# Altium integrated library Pedals SMD.IntLib: 124 symbols (part 7 of 7)
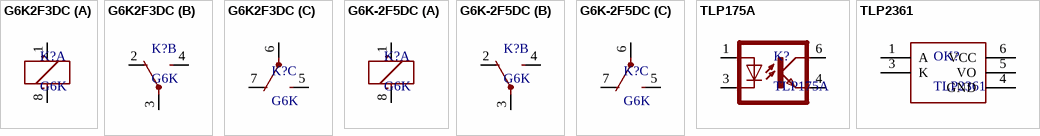
[diagram p17: symbols G6K2F3DC to TLP2361]

## G6K-2F5DC
designator K?, comment G6K
OMRON - G6K-2F 5DC - RELAY, SIGNAL, DPDT, 30VDC, 1A; Manufacturer: Cliff; Coil Resistance: 237R; Coil Voltage (DC): 5V; Coil Current: 21.1mA; Coil Power: 100mW; Coil Type: Non-Latching; Release Time: 1.3ms; Contact Resistance: 100mR; Insulation Resistance: 1GR; Number of Poles: 2; Supplier 1: Farnell; Supplier Part Number 1: 4446185; Manufacturer Part Number: G6K-2F5DC; Stock: 0; RoHS: Yes; Mount: PCB; Case/Package: SMD/SMT; Contact Material: Gold; Min Operating Temperature: -40°C; Max Operating Temperature: 70°C; Contact Current Rating: 1A; Termination: SMD/SMT; Current Rating: 21.1mA; Power Rating: 100mW; Length: 10mm; Height: 5.2mm; Depth: 7.8mm; Width: 10mm; REACH SVHC: Unknown; ComponentLink1URL: https://datasheet.ciiva.com/1524/1702879-1524968.pdf?src-supplier=Element14; ComponentLink1Description: https://datasheet.ciiva.com/1524/1702879-1524968.pdf?src-supplier=Element14; Price: 2.68
footprint G6K
part A pins: 1 +, 8 -
part B pins: 2 O, 3 P, 4 S
part C pins: 5 S, 6 P, 7 O

## TLP175A
designator K?
Toshiba TLP175A AC Input MOSFET Output Optocoupler, Surface Mount, 4-Pin SOIC; Isolation Voltage: 3.75kV; Max Input Current: 80mA; Number of Channels: 1; Rise Time: 1ms; Supplier 1: Farnell; Supplier Part Number 1: 2524257; Manufacturer: Toshiba; Manufacturer Part Number: TLP175A; Stock: 0; Pricing: 5=0.877, 25=0.717, 100=0.597, 250=0.546, 500=0.49, 1000=0.441 (EUR); RoHS: No; Mount: Surface Mount; Case/Package: SOIC; Number of Pins: 4; Fall Time: 1ms; REACH SVHC: Unknown; ComponentLink1URL: http://www.farnell.com/datasheets/2017792.pdf?src-supplier=Farnell; ComponentLink1Description: http://www.farnell.com/datasheets/2017792.pdf?src-supplier=Farnell; ComponentLink2URL: http://uk.rs-online.com/webdocs/129d/0900766b8129d5be.pdf?src-supplier=RSComponents; ComponentLink2Description: http://uk.rs-online.com/webdocs/129d/0900766b8129d5be.pdf?src-supplier=RSComponents; ComponentLink3URL: http://www.farnell.com/datasheets/2017792.pdf?src-supplier=Element14; ComponentLink3Description: http://www.farnell.com/datasheets/2017792.pdf?src-supplier=Element14; ComponentLink4URL: http://www.farnell.com/datasheets/2017792.pdf?src-supplier=Newark; ComponentLink4Description: http://www.farnell.com/datasheets/2017792.pdf?src-supplier=Newark; Price: 0.829
footprint TLP175A (SOP, 4-Leads, Body 3.75x4.60mm, Pitch 2.54mm, IPC Medium Density)
pins: 1 A, 3 C, 4 EMIT, 6 COL

## TLP2361
designator OK?
TOSHIBA - TLP2361 - OPTOKOPPLER, DIGITAL, 3.75KV, SOP-5; Number of Channels: 1; Supplier 1: Farnell; Supplier Part Number 1: 2524282; Manufacturer: Toshiba; Manufacturer Part Number: TLP2361; RoHS: No; Stock: 2816; Pricing: 5=1.18000, 10=0.78500, 25=0.73300, 50=0.64500, 100=0.53800, 500=0.43200 (EUR); Case/Package: SOP; Number of Pins: 5; Isolation Voltage: 3.75kV; REACH SVHC: Unknown; ComponentLink1URL: http://www.farnell.com/datasheets/2017811.pdf?src-supplier=Farnell; ComponentLink1Description: http://www.farnell.com/datasheets/2017811.pdf?src-supplier=Farnell; ComponentLink2URL: http://www.farnell.com/datasheets/2017811.pdf?src-supplier=Element14; ComponentLink2Description: http://www.farnell.com/datasheets/2017811.pdf?src-supplier=Element14
footprint TLP2361
pins: 1 A, 3 K, 4 GND, 5 VO, 6 VCC


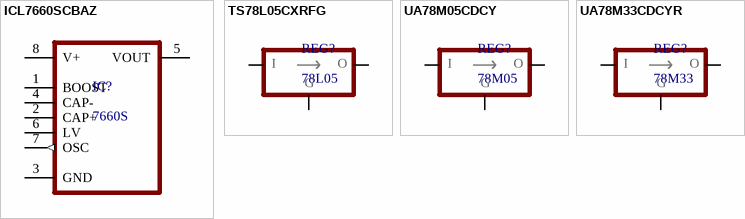
[diagram p8: symbols ICL7660SCBAZ to UA78M33CDCYR]

## ICL7660SCBAZ
designator IC?, comment 7660S
RENESAS - ICL7660SCBAZ - IC DC DC CHARGE PUMP; Manufacturer: Intersil; Output Voltage: 22.8V; Logic Function: Inverting; Output Current: 45mA; Number of Outputs: 1; Max Input Voltage: 12V; Min Supply Voltage: 1.5V; Switching Frequency: 10kHz; Synchronous Rectifier: No; Min Output Voltage: -12V; Max Output Voltage: -1.5V; Max Supply Current: 180uA; Topology: Boost; Output Type: Adjustable; Supplier 1: Farnell; Supplier Part Number 1: 1561969; Manufacturer Part Number: ICL7660SCBAZ; Stock: 4037; Pricing: 1=1.19, 25=1.01, 50=0.911, 100=0.804, 250=0.745, 500=0.686, 1000=0.672, 2500=0.664 (EUR); RoHS: Yes; Mount: Surface Mount; Case/Package: SOIC; Number of Pins: 8; Weight: 0.019048oz; Contact Plating: Tin; Min Operating Temperature: 0°C; Max Operating Temperature: 70°C; Packaging: Rail/Tube; Max Supply Voltage: 12V; Package Quantity: 98; Max Output Current: 45mA; Min Input Voltage: 1.5V; Length: 5mm; Height: 1.5mm; Width: 4mm; Radiation Hardening: No; Lead Free: Lead Free; REACH SVHC: No SVHC; ComponentLink1URL: https://datasheet.ciiva.com/26896/icl7660scbaz-26896984.pdf?src-supplier=IIIC; ComponentLink1Description: https://datasheet.ciiva.com/26896/icl7660scbaz-26896984.pdf?src-supplier=IIIC; ComponentLink2URL: https://datasheet.ciiva.com/2027/icl7660s-a-2027389.pdf?src-supplier=Digi-Key; ComponentLink2Description: https://datasheet.ciiva.com/2027/icl7660s-a-2027389.pdf?src-supplier=Digi-Key; Price: 1.52
footprint SO8
pins: 1 BOOST (power), 2 CAP+, 3 GND (power), 4 CAP-, 5 VOUT (power), 6 LV, 7 OSC (out), 8 V+ (power)

## TS78L05CXRFG
designator REG?, comment 78L05
TAIWAN SEMICONDUCTOR - TS78L05CX RFG - REG 3-TERMINAL 100MA, SMD, SOT23-3; Min Input Voltage: 0uV; Max Input Voltage: 35V; Number of Outputs: 1; Nominal Output Voltage: 5V; Supplier 1: Farnell; Supplier Part Number 1: 1476698; Manufacturer: Taiwan Semiconductor; Manufacturer Part Number: TS78L05CXRFG; Stock: 0; Pricing: 5=0.101, 50=0.099, 100=0.097, 250=0.0949, 500=0.0929, 1000=0.0909, 5000=0.0889, 10000=0.0869 (EUR); RoHS: Yes; Case/Package: SOT-23; Number of Pins: 3; Min Operating Temperature: 0°C; Max Operating Temperature: 125°C; Output Current: 100mA; Packaging: Cut Tape; REACH SVHC: No SVHC; ComponentLink1URL: http://www.farnell.com/datasheets/2044138.pdf?src-supplier=Farnell; ComponentLink1Description: http://www.farnell.com/datasheets/2044138.pdf?src-supplier=Farnell; ComponentLink2URL: http://www.farnell.com/datasheets/4546.pdf?src-supplier=Element14; ComponentLink2Description: http://www.farnell.com/datasheets/4546.pdf?src-supplier=Element14; ComponentLink3URL: http://www.taiwansemi.com/products/datasheet/TS78L00_I15.pdf?src-supplier=Digi-Key; ComponentLink3Description: http://www.taiwansemi.com/products/datasheet/TS78L00_I15.pdf?src-supplier=Digi-Key; Price: 0.262
footprint SOT23-3 (SOT23, 3-Leads, Body 2.80x2.80mm, Pitch 0.95mm, IPC Medium Density)
pins: 1 OUTPUT (power), 2 INPUT (power), 3 COMMON (power)
text: I; O; G

## UA78M05CDCY
designator REG?, comment 78M05
IC REG LINEAR 5V 500MA SOT223-4; Manufacturer: Texas Instruments; Manufacturer Part Number: UA78M05CDCY; Max Input Voltage: 25V; Min Input Voltage: 7V; Number of Outputs: 1; Dropout Voltage: 2V; Polarity: Positive; Power Supply Rejection Ratio (PSRR): 80dB; Quiescent Current: 4.5mA; Output Type: Fixed; Min Output Voltage: 4.75V; Supplier 1: Farnell; Supplier Part Number 1: 2296030; Stock: 6366; Pricing: 1=0.51, 50=0.445, 100=0.288, 250=0.262, 500=0.236, 1000=0.21, 2500=0.199, 5000=0.188 (EUR); RoHS: Yes; Mount: Surface Mount; Case/Package: SOT-223; Number of Pins: 4; Weight: 0.006632oz; Contact Plating: Tin; Min Operating Temperature: -40°C; Max Operating Temperature: 125°C; Output Voltage: 5V; Output Current: 500mA; Packaging: Rail/Tube; Package Quantity: 80; Max Output Current: 500mA; Number of Regulators: 1; Nominal Output Voltage: 5V; Max Output Voltage: 5V; Length: 6.5mm; Height: 1.6mm; Width: 3.5mm; Radiation Hardening: No; Lead Free: Lead Free; REACH SVHC: No SVHC; ComponentLink1URL: https://datasheet.ciiva.com/7992/1831162-7992581.pdf?src-supplier=Element14; ComponentLink1Description: https://datasheet.ciiva.com/7992/1831162-7992581.pdf?src-supplier=Element14; ComponentLink2URL: https://datasheet.ciiva.com/3224/ua78m05-3224613.pdf?src-supplier=Avnet; ComponentLink2Description: https://datasheet.ciiva.com/3224/ua78m05-3224613.pdf?src-supplier=Avnet; ComponentLink3URL: https://datasheet.ciiva.com/16490/ua78m12-16490200.pdf?src-supplier=Avnet+Asia; ComponentLink3Description: https://datasheet.ciiva.com/16490/ua78m12-16490200.pdf?src-supplier=Avnet+Asia; ComponentLink4URL: https://datasheet.ciiva.com/22629/1882046-22629338.pdf?src-supplier=Element14; ComponentLink4Description: https://datasheet.ciiva.com/22629/1882046-22629338.pdf?src-supplier=Element14; ComponentLink5URL: https://datasheet.ciiva.com/5697/ua78m08-5697147.pdf?src-supplier=Farnell; ComponentLink5Description: https://datasheet.ciiva.com/5697/ua78m08-5697147.pdf?src-supplier=Farnell; ComponentLink6URL: https://datasheet.ciiva.com/26255/ua78m12-26255901.pdf?src-supplier=Avnet+Europe; ComponentLink6Description: https://datasheet.ciiva.com/26255/ua78m12-26255901.pdf?src-supplier=Avnet+Europe; ComponentLink7URL: https://datasheet.ciiva.com/2060/ua78m05-2060143.pdf?src-supplier=Digi-Key; ComponentLink7Description: https://datasheet.ciiva.com/2060/ua78m05-2060143.pdf?src-supplier=Digi-Key
footprint SOT223 (SOT223, 4-Leads, Body 6.50x7.00mm (avg), Pitch 2.30mm, IPC Medium Density)
pins: 1 OUTPUT (power), 2 INPUT (power), 3 COMMON (power)
text: I; O; G

## UA78M33CDCYR
designator REG?, comment 78M33
IC REG LIN 3.3V 500MA SOT223-4; Manufacturer: Texas Instruments; Manufacturer Part Number: UA78M33CDCYR; Dropout Voltage: 2V; Number of Outputs: 1; Min Input Voltage: 5.3V; Max Input Voltage: 25V; Polarity: Positive; Power Supply Rejection Ratio (PSRR): 80dB; Quiescent Current: 4.5mA; Output Type: Fixed; Supplier 1: Farnell; Supplier Part Number 1: 3008103; RoHS: Yes; Category: Voltage Regulators - Linear; Stock: 16789; Pricing: 1=0.49500, 50=0.43200, 100=0.27900, 250=0.26000, 500=0.24200, 1000=0.22300, 2500=0.20200, 5000=0.18600 (EUR); Mount: Surface Mount; Case/Package: SOT-223-4; Number of Pins: 4; Weight: 0.006632oz; Contact Plating: Tin,Matte; Min Operating Temperature: -40°C; Max Operating Temperature: 125°C; Output Current: 500mA; Output Voltage: 3.3V; Packaging: Tape and Reel; Package Quantity: 1; Max Output Current: 500mA; Number of Regulators: 1; Nominal Output Voltage: 3.3V; Radiation Hardening: No; Lead Free: Lead Free; REACH SVHC: No SVHC; ComponentLink1URL: https://datasheet.ciiva.com/2042/ua78m05-2042173.pdf?src-supplier=Digi-Key; ComponentLink1Description: https://datasheet.ciiva.com/2042/ua78m05-2042173.pdf?src-supplier=Digi-Key; ComponentLink2URL: https://datasheet.ciiva.com/46395/1882046-46395062.pdf?src-supplier=Element14; ComponentLink2Description: https://datasheet.ciiva.com/46395/1882046-46395062.pdf?src-supplier=Element14; ComponentLink3URL: https://datasheet.ciiva.com/7992/1882046-7992586.pdf?src-supplier=Element14; ComponentLink3Description: https://datasheet.ciiva.com/7992/1882046-7992586.pdf?src-supplier=Element14; ComponentLink4URL: https://datasheet.ciiva.com/2042/ua78m05-2042171.pdf?src-supplier=Digi-Key; ComponentLink4Description: https://datasheet.ciiva.com/2042/ua78m05-2042171.pdf?src-supplier=Digi-Key; ComponentLink5URL: https://datasheet.ciiva.com/3224/ua78m05-3224619.pdf?src-supplier=Avnet; ComponentLink5Description: https://datasheet.ciiva.com/3224/ua78m05-3224619.pdf?src-supplier=Avnet; ComponentLink6URL: https://datasheet.ciiva.com/2042/ua78m05-2042172.pdf?src-supplier=Digi-Key; ComponentLink6Description: https://datasheet.ciiva.com/2042/ua78m05-2042172.pdf?src-supplier=Digi-Key; ComponentLink7URL: https://datasheet.ciiva.com/26170/ua78m12-26170716.pdf?src-supplier=Avnet+Europe; ComponentLink7Description: https://datasheet.ciiva.com/26170/ua78m12-26170716.pdf?src-supplier=Avnet+Europe; ComponentLink8URL: https://datasheet.ciiva.com/41463/001015184-da-01-en-ic-reg-3-3v-u-ua78m33cdcyr-sot-223-4-tid-41463029.pdf?src-supplier=Conrad; ComponentLink8Description: https://datasheet.ciiva.com/41463/001015184-da-01-en-ic-reg-3-3v-u-ua78m33cdcyr-sot-223-4-tid-41463029.pdf?src-supplier=Conrad
footprint SOT223 (SOT223, 4-Leads, Body 6.50x7.00mm (avg), Pitch 2.30mm, IPC Medium Density)
pins: 1 INPUT (power), 2 COMMON (power), 3 OUTPUT (power)
text: I; O; G


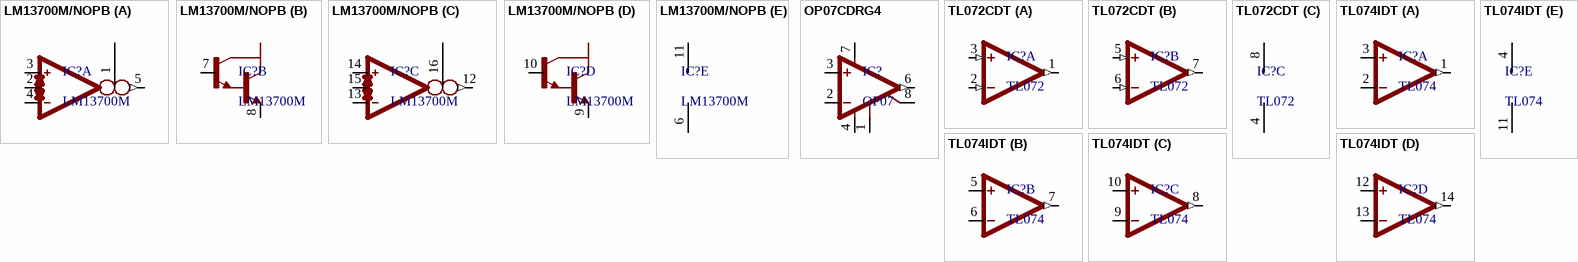
[diagram p9: symbols LM13700M/NOPB to TL074IDT]

## LM13700M/NOPB
designator IC?, comment LM13700M
IC OPAMP TRANSCOND 2MHZ 16SOIC; Manufacturer: TI National Semiconductor; Manufacturer Part Number: LM13700M/NOPB; Min Dual Supply Voltage: 5V; Max Dual Supply Voltage: 18V; Max Supply Voltage: 36V; Output Current: 20mA; Input Offset Voltage (Vos): 4mV; Input Bias Current: 8uA; Number of Circuits: 2; Common Mode Rejection Ratio: 80dB; Min Supply Voltage: 10V; Slew Rate: 50V/µs; Nominal Supply Current: 2.6mA; Output Current per Channel: 650uA; Dual Supply Voltage: 9V; Input Resistance: 26kR; Min Input Voltage: -5V; Supplier 1: Farnell; Supplier Part Number 1: 3118203; RoHS: Yes; Category: Amplifiers - Op Amps, Buffer, Instrumentation; Stock: 890; Pricing: 1=1.01000, 25=0.88700, 50=0.78400, 100=0.68100, 250=0.63800, 500=0.60200, 1000=0.55300, 2500=0.50300 (EUR); Mount: Surface Mount; Case/Package: SOIC; Number of Pins: 16; Contact Plating: Tin; Min Operating Temperature: 0°C; Max Operating Temperature: 70°C; Unity Gain Bandwidth Product: 2MHz; Gain Bandwidth Product: 2MHz; Number of Elements: 2; Package Quantity: 48; Packaging: Rail/Tube; Number of Amplifiers: 2; Number of Channels: 2; Max Input Voltage: 5V; Max Supply Current: 2.6mA; Max Output Current: 650uA; Length: 9.91mm; Height: 1.45mm; Width: 3.91mm; Radiation Hardening: No; Lead Free: Lead Free; REACH SVHC: No SVHC; ComponentLink1URL: https://datasheet.ciiva.com/27055/1992224-27055814.pdf?src-supplier=Jameco; ComponentLink1Description: https://datasheet.ciiva.com/27055/1992224-27055814.pdf?src-supplier=Jameco; ComponentLink2URL: https://datasheet.ciiva.com/15128/getdatasheetpartid-55618-15128167.pdf?src-supplier=Verical; ComponentLink2Description: https://datasheet.ciiva.com/15128/getdatasheetpartid-55618-15128167.pdf?src-supplier=Verical; ComponentLink3URL: https://datasheet.ciiva.com/1488/1839252-1488541.pdf?src-supplier=Element14; ComponentLink3Description: https://datasheet.ciiva.com/1488/1839252-1488541.pdf?src-supplier=Element14; ComponentLink4URL: https://datasheet.ciiva.com/1582/87555-1582990.pdf?src-supplier=Newark; ComponentLink4Description: https://datasheet.ciiva.com/1582/87555-1582990.pdf?src-supplier=Newark; ComponentLink5URL: https://datasheet.ciiva.com/14094/iplm13700-data-e-14094251.pdf?src-supplier=Distrelec; ComponentLink5Description: https://datasheet.ciiva.com/14094/iplm13700-data-e-14094251.pdf?src-supplier=Distrelec; ComponentLink6URL: https://datasheet.ciiva.com/1804/lm13700-1804254.pdf?src-supplier=Digi-Key; ComponentLink6Description: https://datasheet.ciiva.com/1804/lm13700-1804254.pdf?src-supplier=Digi-Key
footprint SO-16 (SOIC, 16-Leads, Body 9.85x3.85mm, Pitch 1.27mm, IPC Medium Density)
part A pins: 1 I_BIAS, 2 I_DIODE, 3 IN_P, 4 IN_N, 5 OUT (out)
part B pins: 7 B, 8 E
part C pins: 12 OUT (out), 13 IN_N, 14 IN_P, 15 I_DIODE, 16 I_BIAS
part D pins: 9 E, 10 B
part E pins: 6 V- (oe), 11 V+ (oe)

## OP07CDRG4
designator IC?, comment OP07
IC OPAMP GP 600KHZ 8SOIC; Manufacturer: Texas Instruments; Manufacturer Part Number: OP07CDRG4; Max Dual Supply Voltage: 18V; Min Dual Supply Voltage: 3V; Voltage Gain: 112.04dB; Dual Supply Voltage: 9V; Nominal Supply Current: 5mA; Common Mode Rejection Ratio: 100dB; Number of Channels: 1; Slew Rate: 0.3V/µs; Max I/O Voltage: 150uV; Input Bias Current: 7nA; Supplier 1: Farnell; Supplier Part Number 1: 2769315; Stock: 2476; Pricing: 1=0.623, 50=0.544, 100=0.351, 250=0.328, 500=0.304, 1000=0.281, 2500=0.254, 5000=0.233 (EUR); RoHS: Yes; Case/Package: D; Number of Pins: 8; Min Operating Temperature: 0°C; Max Operating Temperature: 70°C; Unity Gain Bandwidth Product: 600kHz; Packaging: Tape and Reel; Package Quantity: 2500; Operating Supply Voltage: 18V; Nominal Gain Bandwidth Product: 600kHz; Input Offset Voltage (Vos): 150uV; Gain Bandwidth Product: 600kHz; Number of Circuits: 1; Number of Elements: 1; Bandwidth: 600kHz; Length: 4.9mm; Height: 1.58mm; Width: 3.91mm; Radiation Hardening: No; Lead Free: Lead Free; ComponentLink1URL: https://datasheet.ciiva.com/1811/op07c-1811542.pdf?src-supplier=Digi-Key; ComponentLink1Description: https://datasheet.ciiva.com/1811/op07c-1811542.pdf?src-supplier=Digi-Key; Price: 0.623
footprint SO-8 (SOIC, 8-Leads, Body 4.90x3.90mm, Pitch 1.27mm, IPC Medium Density)
pins: 1 CMP1, 2 -IN, 3 +IN, 4 V- (power), 6 OUT (out), 7 V+ (power), 8 CMP2

## TL072CDT
designator IC?, comment TL072
IC OPAMP JFET 4MHZ 8SO; Manufacturer: STMicroelectronics; Manufacturer Part Number: TL072CDT; Common Mode Rejection Ratio: 70dB; Min Dual Supply Voltage: 3V; Voltage Gain: 106.02dB; Slew Rate: 16V/µs; Min Supply Voltage: 6V; Max Supply Voltage: 36V; Max Dual Supply Voltage: 18V; Number of Channels: 2; Dual Supply Voltage: 9V; Output Current: 40mA; Nominal Supply Current: 2.5mA; Input Bias Current: 200pA; Input Offset Voltage (Vos): 10mV; Operating Supply Current: 1.4mA; Supplier 1: Farnell; Supplier Part Number 1: 1467663; Stock: 1760; Pricing: 5=0.351, 50=0.313, 100=0.188, 500=0.167, 1000=0.145 (EUR); RoHS: Yes; Mount: Surface Mount; Case/Package: SOIC; Number of Pins: 8; Weight: 0.01lb; Contact Plating: Tin; Min Operating Temperature: 0°C; Max Operating Temperature: 70°C; Gain Bandwidth Product: 4MHz; Unity Gain Bandwidth Product: 4MHz; Packaging: Tape and Reel; Package Quantity: 1; Bandwidth: 4MHz; Operating Supply Voltage: 18V; Number of Circuits: 2; Output Current per Channel: 40mA; Number of Elements: 2; Number of Amplifiers: 2; Length: 4.9mm; Height: 1.25mm; Width: 3.9mm; Radiation Hardening: No; REACH SVHC: No SVHC; Lead Free: Lead Free; ComponentLink1URL: https://datasheet.ciiva.com/15129/getdatasheetpartid-40113-15129688.pdf?src-supplier=Verical; ComponentLink1Description: https://datasheet.ciiva.com/15129/getdatasheetpartid-40113-15129688.pdf?src-supplier=Verical; ComponentLink2URL: https://datasheet.ciiva.com/29306/155616-da-01-en-op-verst-tl072cdt-stm-29306849.pdf?src-supplier=Conrad; ComponentLink2Description: https://datasheet.ciiva.com/29306/155616-da-01-en-op-verst-tl072cdt-stm-29306849.pdf?src-supplier=Conrad; ComponentLink3URL: https://datasheet.ciiva.com/26847/tl072cdt-26847276.pdf?src-supplier=IIIC; ComponentLink3Description: https://datasheet.ciiva.com/26847/tl072cdt-26847276.pdf?src-supplier=IIIC; ComponentLink4URL: https://datasheet.ciiva.com/1795/cd00000490-1795664.pdf?src-supplier=Digi-Key; ComponentLink4Description: https://datasheet.ciiva.com/1795/cd00000490-1795664.pdf?src-supplier=Digi-Key; ComponentLink5URL: https://datasheet.ciiva.com/1795/cd00000490-1795665.pdf?src-supplier=Digi-Key; ComponentLink5Description: https://datasheet.ciiva.com/1795/cd00000490-1795665.pdf?src-supplier=Digi-Key; ComponentLink6URL: https://datasheet.ciiva.com/1795/cd00000490-1795666.pdf?src-supplier=Digi-Key; ComponentLink6Description: https://datasheet.ciiva.com/1795/cd00000490-1795666.pdf?src-supplier=Digi-Key; ComponentLink7URL: https://datasheet.ciiva.com/8008/1674510-8008556.pdf?src-supplier=Element14; ComponentLink7Description: https://datasheet.ciiva.com/8008/1674510-8008556.pdf?src-supplier=Element14; ComponentLink8URL: https://datasheet.ciiva.com/14151/tl072-tl072a-tl072b-st-tds-eng-14151196.pdf?src-supplier=Distrelec; ComponentLink8Description: https://datasheet.ciiva.com/14151/tl072-tl072a-tl072b-st-tds-eng-14151196.pdf?src-supplier=Distrelec; ComponentLink9URL: https://datasheet.ciiva.com/8008/1674510-8008557.pdf?src-supplier=Element14; ComponentLink9Description: https://datasheet.ciiva.com/8008/1674510-8008557.pdf?src-supplier=Element14; Price: 0.351
footprint SO-8 (SOIC, 8-Leads, Body 4.90x3.90mm, Pitch 1.27mm, IPC Medium Density)
part A pins: 1 OUT (out), 2 -IN (in), 3 +IN (in)
part B pins: 5 +IN (in), 6 -IN (in), 7 OUT (out)
part C pins: 4 V- (power), 8 V+ (power)

## TL074IDT
designator IC?, comment TL074
IC OPAMP JFET 3MHZ 14SO; Manufacturer: STMicroelectronics; Manufacturer Part Number: TL074IDT; Voltage Gain: 106.02dB; Min Dual Supply Voltage: 3V; Common Mode Rejection Ratio: 80dB; Dual Supply Voltage: 9V; Slew Rate: 13V/µs; Number of Channels: 4; Max Dual Supply Voltage: 18V; Nominal Supply Current: 2.5mA; Input Bias Current: 200pA; Input Offset Voltage (Vos): 3mV; Operating Supply Current: 1.4mA; Min Supply Voltage: 6V; Output Current: 40mA; Max Input Voltage: 15V; Min Input Voltage: -12V; Power Dissipation: 680mW; Supplier 1: Farnell; Supplier Part Number 1: 1750154; RoHS: Yes; Category: Amplifiers - Op Amps, Buffer, Instrumentation; Stock: 18824; Pricing: 5=0.48500, 50=0.42800, 100=0.26100, 500=0.23200, 1000=0.20200 (EUR); Mount: Surface Mount; Case/Package: SOIC; Number of Pins: 14; Min Operating Temperature: -40°C; Max Operating Temperature: 105°C; Gain Bandwidth Product: 3MHz; Bandwidth: 3MHz; Packaging: Tape and Reel; Unity Gain Bandwidth Product: 3MHz; Package Quantity: 2500; Number of Circuits: 4; Number of Amplifiers: 4; Number of Elements: 4; Max Supply Voltage: 18V; Output Current per Channel: 40mA; Length: 8.75mm; Height: 1.65mm; Width: 4mm; Radiation Hardening: No; REACH SVHC: No SVHC; Lead Free: Lead Free; ComponentLink1URL: https://datasheet.ciiva.com/26846/tl074idt-26846545.pdf?src-supplier=IIIC; ComponentLink1Description: https://datasheet.ciiva.com/26846/tl074idt-26846545.pdf?src-supplier=IIIC; ComponentLink2URL: https://datasheet.ciiva.com/1795/cd00000489-1795785.pdf?src-supplier=Digi-Key; ComponentLink2Description: https://datasheet.ciiva.com/1795/cd00000489-1795785.pdf?src-supplier=Digi-Key; ComponentLink3URL: https://datasheet.ciiva.com/1795/cd00000489-1795786.pdf?src-supplier=Digi-Key; ComponentLink3Description: https://datasheet.ciiva.com/1795/cd00000489-1795786.pdf?src-supplier=Digi-Key; ComponentLink4URL: https://datasheet.ciiva.com/1795/cd00000489-1795787.pdf?src-supplier=Digi-Key; ComponentLink4Description: https://datasheet.ciiva.com/1795/cd00000489-1795787.pdf?src-supplier=Digi-Key
footprint SO-14 (SOIC, 14-Leads, Body 8.65x3.90mm, Pitch 1.27mm, IPC Medium Density)
part A pins: 1 OUT (out), 2 -IN, 3 +IN
part B pins: 5 +IN, 6 -IN, 7 OUT (out)
part C pins: 8 OUT (out), 9 -IN, 10 +IN
part D pins: 12 +IN, 13 -IN, 14 OUT (out)
part E pins: 4 V+ (power), 11 V- (power)


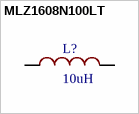
[diagram p10: symbol MLZ1608N100LT]

## MLZ1608N100LT
designator L?, comment 10uH
TDK         MLZ1608N100LT             Surface Mount Power Inductor, Ferrite, MLZ Series, 10 H, 300 mA, 60 mA, Multilayer, 0.6 ohm                          New; Tolerance: 20%; Shielding: Shielded; DC Resistance (DCR): 780mR; Test Frequency: 2MHz; Self Resonant Frequency: 50MHz; Saturation Current: 60mA; DC Current: 300mA; Supplier 1: Farnell; Supplier Part Number 1: 2564062; Manufacturer: TDK; Manufacturer Part Number: MLZ1608N100LT; RoHS: Yes; Category: Inductors; Stock: 14993; Pricing: 10=0.12200, 100=0.07240, 500=0.06400, 1000=0.05560, 2000=0.04660, 4000=0.03890, 20000=0.03730 (EUR); Mount: Surface Mount; Case/Package: 603; Core Material: Ferrite; Min Operating Temperature: -55°C; Max Operating Temperature: 125°C; Packaging: Cut Tape; Inductance: 10uH; Inductance Tolerance: 20%; Military Standard: Not; RMS Current (Irms): 300mA; Length: 1.75mm; Depth: 0.95mm; REACH SVHC: No SVHC; ComponentLink1URL: http://www.farnell.com/datasheets/2053102.pdf?src-supplier=Farnell; ComponentLink1Description: http://www.farnell.com/datasheets/2053102.pdf?src-supplier=Farnell; ComponentLink2URL: http://components.arrow.com/part/dataview/0323_03824957?src-supplier=Arrow+Europe; ComponentLink2Description: http://components.arrow.com/part/dataview/0323_03824957?src-supplier=Arrow+Europe; ComponentLink3URL: http://www.farnell.com/datasheets/2053102.pdf?src-supplier=Element14; ComponentLink3Description: http://www.farnell.com/datasheets/2053102.pdf?src-supplier=Element14
footprint INDC1608X10 (Chip Inductor, 2-Leads, Body 1.60x0.80mm, IPC Medium Density)
pins: 1, 2


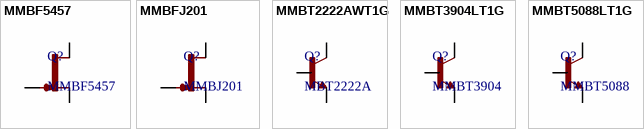
[diagram p11: symbols MMBF5457 to MMBT5088LT1G]

## MMBF5457
designator Q?
JFET N-CH 25V 350MW SOT23; Manufacturer: ON Semiconductor / Fairchild; Gate to Source Voltage (Vgs): -25V; Element Configuration: Single; Input Capacitance: 7pF; Continuous Drain Current (ID): 5mA; Current Rating: 10mA; Supplier 1: Farnell; Supplier Part Number 1: 2454012; Manufacturer Part Number: MMBF5457; Stock: 1558; Pricing: 5=0.272, 25=0.262, 100=0.135, 250=0.13, 500=0.107, 1000=0.0836, 5000=0.0785 (EUR); RoHS: Yes; Mount: Surface Mount; Case/Package: SOT-23; Number of Pins: 3; Weight: 0.03g; Contact Plating: Tin; Min Operating Temperature: -55°C; Max Operating Temperature: 150°C; Packaging: Tape and Reel; Package Quantity: 1; Max Power Dissipation: 350mW; Power Dissipation: 350mW; Drain to Source Voltage (Vdss): 25V; Voltage Rating (DC): 25V; Length: 2.92mm; Height: 0.93mm; Width: 1.3mm; Radiation Hardening: No; Lead Free: Lead Free; REACH SVHC: No SVHC; ComponentLink1URL: https://datasheet.ciiva.com/25625/0900766b810cdc04-25625787.pdf?src-supplier=RSComponents; ComponentLink1Description: https://datasheet.ciiva.com/25625/0900766b810cdc04-25625787.pdf?src-supplier=RSComponents; ComponentLink2URL: https://datasheet.ciiva.com/8120/mmbf5459-8120391.pdf?src-supplier=Avnet; ComponentLink2Description: https://datasheet.ciiva.com/8120/mmbf5459-8120391.pdf?src-supplier=Avnet; ComponentLink3URL: https://datasheet.ciiva.com/26026/mmbf5459-26026568.pdf?src-supplier=Avnet+Europe; ComponentLink3Description: https://datasheet.ciiva.com/26026/mmbf5459-26026568.pdf?src-supplier=Avnet+Europe; ComponentLink4URL: https://datasheet.ciiva.com/960/mmbf5457-960906.pdf?src-supplier=Digi-Key; ComponentLink4Description: https://datasheet.ciiva.com/960/mmbf5457-960906.pdf?src-supplier=Digi-Key; ComponentLink5URL: https://datasheet.ciiva.com/960/mmbf5457-960907.pdf?src-supplier=Digi-Key; ComponentLink5Description: https://datasheet.ciiva.com/960/mmbf5457-960907.pdf?src-supplier=Digi-Key; ComponentLink6URL: https://datasheet.ciiva.com/46445/46943-46445739.pdf?src-supplier=Element14; ComponentLink6Description: https://datasheet.ciiva.com/46445/46943-46445739.pdf?src-supplier=Element14; ComponentLink7URL: https://datasheet.ciiva.com/960/mmbf5457-960908.pdf?src-supplier=Digi-Key; ComponentLink7Description: https://datasheet.ciiva.com/960/mmbf5457-960908.pdf?src-supplier=Digi-Key; ComponentLink8URL: https://datasheet.ciiva.com/3304/mmbf5459-3304349.pdf?src-supplier=Avnet; ComponentLink8Description: https://datasheet.ciiva.com/3304/mmbf5459-3304349.pdf?src-supplier=Avnet; Price: 0.26
footprint SOT23 (SOT23, 3-Leads, Body 2.90x2.35mm, Pitch 0.95mm, IPC Medium Density)
pins: 1 D, 2 S, 3 G

## MMBFJ201
designator Q?, comment MMBJ201
JFET N-CH 40V 350MW SOT23; Manufacturer: ON Semiconductor / Fairchild; Manufacturer Part Number: MMBFJ201; Element Configuration: Single; Gate to Source Voltage (Vgs): -40V; Continuous Drain Current (ID): 1mA; Current Rating: 50mA; Supplier 1: Farnell; Supplier Part Number 1: 2295758; Stock: 814; Pricing: 5=0.271, 50=0.248, 100=0.134, 500=0.097, 1500=0.0905 (EUR); RoHS: Yes; Mount: Surface Mount; Case/Package: SOT-23; Number of Pins: 3; Weight: 0.03g; Min Operating Temperature: -55°C; Max Operating Temperature: 150°C; Package Quantity: 1; Packaging: Tape and Reel; Max Power Dissipation: 350mW; Power Dissipation: 350mW; Voltage Rating (DC): 40V; Drain to Source Voltage (Vdss): 40V; Breakdown Voltage: -40V; Length: 2.92mm; Height: 0.93mm; Width: 1.3mm; Radiation Hardening: No; Lead Free: Lead Free; REACH SVHC: No SVHC; ComponentLink1URL: https://datasheet.ciiva.com/960/mmbfj201-960915.pdf?src-supplier=Digi-Key; ComponentLink1Description: https://datasheet.ciiva.com/960/mmbfj201-960915.pdf?src-supplier=Digi-Key; ComponentLink2URL: https://datasheet.ciiva.com/1188/j201-1188339.pdf?src-supplier=Element14; ComponentLink2Description: https://datasheet.ciiva.com/1188/j201-1188339.pdf?src-supplier=Element14; ComponentLink3URL: https://datasheet.ciiva.com/960/mmbfj201-960916.pdf?src-supplier=Digi-Key; ComponentLink3Description: https://datasheet.ciiva.com/960/mmbfj201-960916.pdf?src-supplier=Digi-Key; ComponentLink4URL: https://datasheet.ciiva.com/1209/mmbfj201-1209636.pdf?src-supplier=Farnell; ComponentLink4Description: https://datasheet.ciiva.com/1209/mmbfj201-1209636.pdf?src-supplier=Farnell; ComponentLink5URL: https://datasheet.ciiva.com/960/mmbfj201-960917.pdf?src-supplier=Digi-Key; ComponentLink5Description: https://datasheet.ciiva.com/960/mmbfj201-960917.pdf?src-supplier=Digi-Key; ComponentLink6URL: https://datasheet.ciiva.com/8084/mmbfj201-8084197.pdf?src-supplier=Avnet; ComponentLink6Description: https://datasheet.ciiva.com/8084/mmbfj201-8084197.pdf?src-supplier=Avnet; ComponentLink7URL: https://datasheet.ciiva.com/8084/mmbfj201-8084198.pdf?src-supplier=Avnet; ComponentLink7Description: https://datasheet.ciiva.com/8084/mmbfj201-8084198.pdf?src-supplier=Avnet; ComponentLink8URL: https://datasheet.ciiva.com/4437/mmbfj201-196106-4437754.pdf?src-supplier=Mouser; ComponentLink8Description: https://datasheet.ciiva.com/4437/mmbfj201-196106-4437754.pdf?src-supplier=Mouser; ComponentLink9URL: https://datasheet.ciiva.com/15224/getdatasheetpartid-92710-15224267.pdf?src-supplier=Verical; ComponentLink9Description: https://datasheet.ciiva.com/15224/getdatasheetpartid-92710-15224267.pdf?src-supplier=Verical; ComponentLink10URL: https://datasheet.ciiva.com/26026/mmbfj201-26026604.pdf?src-supplier=Avnet+Europe; ComponentLink10Description: https://datasheet.ciiva.com/26026/mmbfj201-26026604.pdf?src-supplier=Avnet+Europe; ComponentLink11URL: https://datasheet.ciiva.com/16775/mmbfj201-16775887.pdf?src-supplier=Future+Electronics; ComponentLink11Description: https://datasheet.ciiva.com/16775/mmbfj201-16775887.pdf?src-supplier=Future+Electronics
footprint SOT23 (SOT23, 3-Leads, Body 2.90x2.35mm, Pitch 0.95mm, IPC Medium Density)
pins: 1 D, 2 S, 3 G

## MMBT2222AWT1G
designator Q?, comment MBT2222A
TRANS NPN 40V 0.6A SOT323; Manufacturer: ON Semiconductor; Manufacturer Part Number: MMBT2222AWT1G; Frequency: 300MHz; hFE Min: 35; Max Power Dissipation: 150mW; Collector Base Voltage (VCBO): 75V; Emitter Base Voltage (VEBO): 6V; Collector Emitter Saturation Voltage: 1V; Max Collector Current: 600mA; Number of Elements: 1; Element Configuration: Single; Max Frequency: 100MHz; Current Rating: 28A; Supplier 1: Farnell; Supplier Part Number 1: 2317589; Stock: 16918; Pricing: 5=0.118, 50=0.114, 100=0.0413, 500=0.025, 1500=0.024 (EUR); RoHS: Yes; Case/Package: SC; Number of Pins: 3; Contact Plating: Tin; Min Operating Temperature: -55°C; Max Operating Temperature: 150°C; Package Quantity: 1; Collector Emitter Voltage (VCEO): 40V; Packaging: Tape and Reel; Polarity: NPN; Collector Emitter Breakdown Voltage: 40V; Transition Frequency: 300MHz; Power Dissipation: 150mW; Gain Bandwidth Product: 300MHz; Max Breakdown Voltage: 40V; Voltage Rating (DC): 40V; Length: 2.2mm; Height: 1mm; Width: 1.35mm; Radiation Hardening: No; Lead Free: Lead Free; REACH SVHC: No SVHC; ComponentLink1URL: https://datasheet.ciiva.com/15139/getdatasheetpartid-76779-15139056.pdf?src-supplier=Verical; ComponentLink1Description: https://datasheet.ciiva.com/15139/getdatasheetpartid-76779-15139056.pdf?src-supplier=Verical; ComponentLink2URL: https://datasheet.ciiva.com/4722/mmbt2222awt1-d-110211-4722257.pdf?src-supplier=Mouser; ComponentLink2Description: https://datasheet.ciiva.com/4722/mmbt2222awt1-d-110211-4722257.pdf?src-supplier=Mouser; ComponentLink3URL: https://datasheet.ciiva.com/16478/mmbt2222awt1-d-16478517.pdf?src-supplier=Avnet+Asia; ComponentLink3Description: https://datasheet.ciiva.com/16478/mmbt2222awt1-d-16478517.pdf?src-supplier=Avnet+Asia; ComponentLink4URL: https://datasheet.ciiva.com/11201/mmbt2222awt1-d-11201756.pdf?src-supplier=Avnet; ComponentLink4Description: https://datasheet.ciiva.com/11201/mmbt2222awt1-d-11201756.pdf?src-supplier=Avnet; ComponentLink5URL: https://datasheet.ciiva.com/16221/mmbt2222awt1-d-16221845.pdf?src-supplier=Future+Electronics; ComponentLink5Description: https://datasheet.ciiva.com/16221/mmbt2222awt1-d-16221845.pdf?src-supplier=Future+Electronics; ComponentLink6URL: https://datasheet.ciiva.com/7972/mmbt2222awt1-d-7972374.pdf?src-supplier=Element14; ComponentLink6Description: https://datasheet.ciiva.com/7972/mmbt2222awt1-d-7972374.pdf?src-supplier=Element14; ComponentLink7URL: https://datasheet.ciiva.com/22664/1708260-22664154.pdf?src-supplier=Element14; ComponentLink7Description: https://datasheet.ciiva.com/22664/1708260-22664154.pdf?src-supplier=Element14; ComponentLink8URL: https://datasheet.ciiva.com/976/mmbt2222awt1-d-976443.pdf?src-supplier=Digi-Key; ComponentLink8Description: https://datasheet.ciiva.com/976/mmbt2222awt1-d-976443.pdf?src-supplier=Digi-Key; Price: 0.0413
footprint SOT323 (SOT23, 3-Leads, Body 2.00x2.20mm, Pitch 0.65mm, IPC Medium Density)
pins: 1 B, 2 E, 3 C

## MMBT3904LT1G
designator Q?, comment MMBT3904
TRANS NPN 40V 0.2A SOT23; Manufacturer: ON Semiconductor; Manufacturer Part Number: MMBT3904LT1G; Max Power Dissipation: 300mW; Max Collector Current: 200mA; Collector Base Voltage (VCBO): 60V; Emitter Base Voltage (VEBO): 6V; Collector Emitter Saturation Voltage: 300mV; Element Configuration: Single; Max Frequency: 300MHz; Number of Elements: 1; hFE Min: 100; Type: General Purpose; Supplier 1: Farnell; Supplier Part Number 1: 1459100; Stock: 165506; Pricing: 5=0.119, 50=0.115, 100=0.0414, 500=0.0258, 1500=0.0247 (EUR); RoHS: Yes; Case/Package: SOT-23-3; Number of Pins: 3; Contact Plating: Tin; Min Operating Temperature: -55°C; Max Operating Temperature: 150°C; Collector Emitter Voltage (VCEO): 40V; Packaging: Tape and Reel; Polarity: NPN; Collector Emitter Breakdown Voltage: 40V; Power Dissipation: 300mW; Frequency: 300MHz; Package Quantity: 1; Transition Frequency: 300MHz; Max Breakdown Voltage: 40V; Gain Bandwidth Product: 300MHz; Voltage Rating (DC): 40V; Current Rating: 200mA; Length: 2.9mm; Height: 0.94mm; Width: 1.3mm; Radiation Hardening: No; REACH SVHC: No SVHC; Lead Free: Lead Free; ComponentLink1URL: https://datasheet.ciiva.com/16199/mmbt3904lt1-d-16199009.pdf?src-supplier=Future+Electronics; ComponentLink1Description: https://datasheet.ciiva.com/16199/mmbt3904lt1-d-16199009.pdf?src-supplier=Future+Electronics; ComponentLink2URL: https://datasheet.ciiva.com/4723/mmbt3904lt1-d-113169-4723050.pdf?src-supplier=Mouser; ComponentLink2Description: https://datasheet.ciiva.com/4723/mmbt3904lt1-d-113169-4723050.pdf?src-supplier=Mouser; ComponentLink3URL: https://datasheet.ciiva.com/15138/getdatasheetpartid-53263-15138779.pdf?src-supplier=Verical; ComponentLink3Description: https://datasheet.ciiva.com/15138/getdatasheetpartid-53263-15138779.pdf?src-supplier=Verical; ComponentLink4URL: https://datasheet.ciiva.com/976/mmbt3904lt1-d-976362.pdf?src-supplier=Digi-Key; ComponentLink4Description: https://datasheet.ciiva.com/976/mmbt3904lt1-d-976362.pdf?src-supplier=Digi-Key; ComponentLink5URL: https://datasheet.ciiva.com/16478/mmbt3904lt1-d-16478538.pdf?src-supplier=Avnet+Asia; ComponentLink5Description: https://datasheet.ciiva.com/16478/mmbt3904lt1-d-16478538.pdf?src-supplier=Avnet+Asia; ComponentLink6URL: https://datasheet.ciiva.com/976/mmbt3904lt1-d-976363.pdf?src-supplier=Digi-Key; ComponentLink6Description: https://datasheet.ciiva.com/976/mmbt3904lt1-d-976363.pdf?src-supplier=Digi-Key; ComponentLink7URL: https://datasheet.ciiva.com/11199/mmbt3904lt1-d-11199003.pdf?src-supplier=Avnet; ComponentLink7Description: https://datasheet.ciiva.com/11199/mmbt3904lt1-d-11199003.pdf?src-supplier=Avnet; ComponentLink8URL: https://datasheet.ciiva.com/976/mmbt3904lt1-d-976364.pdf?src-supplier=Digi-Key; ComponentLink8Description: https://datasheet.ciiva.com/976/mmbt3904lt1-d-976364.pdf?src-supplier=Digi-Key; ComponentLink9URL: https://datasheet.ciiva.com/14546/70099530-14546188.pdf?src-supplier=Allied+Electronics; ComponentLink9Description: https://datasheet.ciiva.com/14546/70099530-14546188.pdf?src-supplier=Allied+Electronics; ComponentLink10URL: https://datasheet.ciiva.com/7972/1708269-7972381.pdf?src-supplier=Element14; ComponentLink10Description: https://datasheet.ciiva.com/7972/1708269-7972381.pdf?src-supplier=Element14; ComponentLink11URL: https://datasheet.ciiva.com/22664/1708269-22664159.pdf?src-supplier=Element14; ComponentLink11Description: https://datasheet.ciiva.com/22664/1708269-22664159.pdf?src-supplier=Element14; Price: 0.041
footprint SOT23 (SOT23, 3-Leads, Body 2.90x2.35mm, Pitch 0.95mm, IPC Medium Density)
pins: 1 B, 2 E, 3 C

## MMBT5088LT1G
designator Q?, comment MMBT5088
TRANS NPN 30V 0.05A SOT23; Manufacturer: ON Semiconductor; Manufacturer Part Number: MMBT5088LT1G; Max Collector Current: 50mA; Transition Frequency: 50MHz; Collector Base Voltage (VCBO): 35V; Max Power Dissipation: 300mW; Element Configuration: Single; Emitter Base Voltage (VEBO): 4.5V; Collector Emitter Saturation Voltage: 500mV; Number of Elements: 1; hFE Min: 300; Supplier 1: Farnell; Supplier Part Number 1: 2464059; RoHS: Yes; Category: Integrated Circuits (ICs); Stock: 1883; Pricing: 5=0.16600, 50=0.15800, 100=0.05640, 500=0.03410, 1500=0.03400 (EUR); Case/Package: SOT-23-3; Number of Pins: 3; Weight: 0.01lb; Contact Plating: Tin,Matte; Min Operating Temperature: -55°C; Max Operating Temperature: 150°C; Packaging: Tape and Reel; Polarity: NPN; Collector Emitter Breakdown Voltage: 30V; Package Quantity: 1; Collector Emitter Voltage (VCEO): 30V; Gain Bandwidth Product: 50MHz; Max Breakdown Voltage: 30V; Max Frequency: 50MHz; Power Dissipation: 300mW; Frequency: 50MHz; Voltage Rating (DC): 30V; Current Rating: 50mA; Length: 3.04mm; Height: 1.01mm; Width: 1.4mm; Radiation Hardening: No; Lead Free: Lead Free; REACH SVHC: No SVHC; ComponentLink1URL: https://datasheet.ciiva.com/976/mmbt5088lt1-d-976496.pdf?src-supplier=Digi-Key; ComponentLink1Description: https://datasheet.ciiva.com/976/mmbt5088lt1-d-976496.pdf?src-supplier=Digi-Key; ComponentLink2URL: https://datasheet.ciiva.com/15139/getdatasheetpartid-93411-15139193.pdf?src-supplier=Verical; ComponentLink2Description: https://datasheet.ciiva.com/15139/getdatasheetpartid-93411-15139193.pdf?src-supplier=Verical; ComponentLink3URL: https://datasheet.ciiva.com/30480/0900766b8127ca6c-30480439.pdf?src-supplier=RSComponents; ComponentLink3Description: https://datasheet.ciiva.com/30480/0900766b8127ca6c-30480439.pdf?src-supplier=RSComponents; ComponentLink4URL: https://datasheet.ciiva.com/11198/mmbt5088lt1-d-11198728.pdf?src-supplier=Avnet; ComponentLink4Description: https://datasheet.ciiva.com/11198/mmbt5088lt1-d-11198728.pdf?src-supplier=Avnet; ComponentLink5URL: https://datasheet.ciiva.com/7972/mmbt5088lt1-d-7972395.pdf?src-supplier=Element14; ComponentLink5Description: https://datasheet.ciiva.com/7972/mmbt5088lt1-d-7972395.pdf?src-supplier=Element14; ComponentLink6URL: https://datasheet.ciiva.com/11201/mmbt5088lt1-d-11201836.pdf?src-supplier=Avnet; ComponentLink6Description: https://datasheet.ciiva.com/11201/mmbt5088lt1-d-11201836.pdf?src-supplier=Avnet; ComponentLink7URL: https://datasheet.ciiva.com/976/mmbt5088lt1-d-976495.pdf?src-supplier=Digi-Key; ComponentLink7Description: https://datasheet.ciiva.com/976/mmbt5088lt1-d-976495.pdf?src-supplier=Digi-Key; ComponentLink8URL: https://datasheet.ciiva.com/16397/mmbt5088lt1-d-16397013.pdf?src-supplier=Future+Electronics; ComponentLink8Description: https://datasheet.ciiva.com/16397/mmbt5088lt1-d-16397013.pdf?src-supplier=Future+Electronics; ComponentLink9URL: https://datasheet.ciiva.com/26115/mmbt5088lt1-d-26115146.pdf?src-supplier=Avnet+Europe; ComponentLink9Description: https://datasheet.ciiva.com/26115/mmbt5088lt1-d-26115146.pdf?src-supplier=Avnet+Europe; ComponentLink10URL: https://datasheet.ciiva.com/976/mmbt5088lt1-d-976494.pdf?src-supplier=Digi-Key; ComponentLink10Description: https://datasheet.ciiva.com/976/mmbt5088lt1-d-976494.pdf?src-supplier=Digi-Key
footprint SOT23 (SOT23, 3-Leads, Body 2.90x2.35mm, Pitch 0.95mm, IPC Medium Density)
pins: 1 B, 2 E, 3 C